# Altium schematic symbol library WB-Connector.SchLib: 1 symbol
Pins are listed as number, name and electrical type; pins without a type are passive.

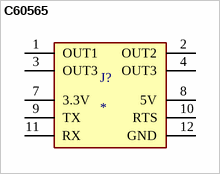
[diagram p0: symbol C60565]

## C60565
designator J?
/ Pin Header 12 2 right-angle，90degrees 2.54mm P=2.54mm Pin Header & Female Header RoHS; MF: Global Connector Technology; MP: BG040-14-A-0300-0300-N-G; Value: *; Package: None; Check_prices: https://www.snapeda.com/parts/BG040-14-A-0300-0300-N-G/Global%20Connector%20Technology/view-part/2751851/?ref=eda; SnapEDA_Link: https://www.snapeda.com/parts/BG040-14-A-0300-0300-N-G/Global%20Connector%20Technology/view-part/2751851/?ref=snap; Price: None; Availability: Unavailable
footprint C60565 (Pin Header 12 2 right-angle,90degrees 2.54mm P=2.54mm Pin Header & Female Header RoHS)
pins: 1 OUT1, 2 OUT2, 3 OUT3, 4 OUT3, 7 3.3V, 8 5V, 9 TX, 10 RTS, 11 RX, 12 GND